# EAGLE library part 175446-6 (library 175446-6)
0.40/0.70 Hybrid Housing,cap,r/a,DR,42w Source: Datasheet <https://www.te.com/commerce/DocumentDelivery/DDEController?Action=srchrtrv&DocNm=175446&DocType=Customer Drawing&DocLang=Japanese>
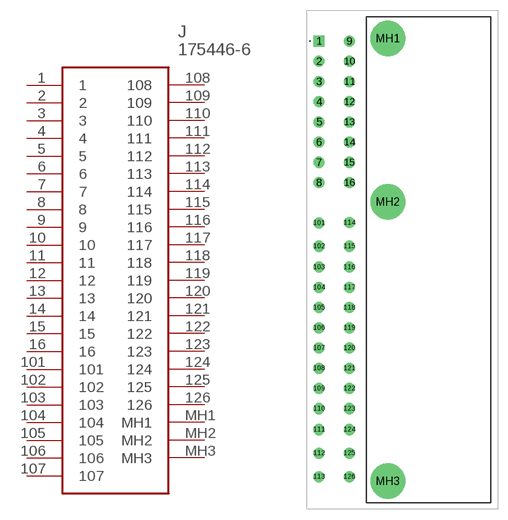
[diagram p0: symbol with the pads of 1754466; footprint 1754466]

Designator prefix J

## 175446-6 (Description: 0.40/0.70 Hybrid Housing,cap,r/a,DR,42w; Height: 22.2mm; Manufacturer_Name: TE Connectivity; Manufacturer_Part_Number: 175446-6; Mouser_Part_Number: 571-175446-6; Mouser_Price-Stock: https://www.mouser.co.uk/ProductDetail/TE-Connectivity-AMP/175446-6?qs=NCjoA4VtBPm%2FgYobaI%252BBdg%3D%3D)  [1754466]
1  1
2  2
3  3
4  4
5  5
6  6
7  7
8  8
9  9
10  10
11  11
12  12
13  13
14  14
15  15
16  16
101  101
102  102
103  103
104  104
105  105
106  106
107  107
108  108
109  109
110  110
111  111
112  112
113  113
114  114
115  115
116  116
117  117
118  118
119  119
120  120
121  121
122  122
123  123
124  124
125  125
126  126
MH1  MH1
MH2  MH2
MH3  MH3

## Footprint 1754466 (pad centres in mm)
175446-6-1
drill 1.1 pad 1.65 square: 1 0,0
drill 1.1 pad 1.65: 2 0,-3; 3 0,-6; 4 0,-9; 5 0,-12; 6 0,-15; 7 0,-18; 8 0,-21; 9 4.5,0; 10 4.5,-3; 11 4.5,-6; 12 4.5,-9; 13 4.5,-12; 14 4.5,-15; 15 4.5,-18; 16 4.5,-21; 101 0,-27; 102 0,-30.45; 103 0,-33.55; 104 0,-36.55; 105 0,-39.55; 106 0,-42.55; 107 0,-45.55; 108 0,-48.55; 109 0,-51.55; 110 0,-54.55; 111 0,-57.65; 112 0,-61.15; 113 0,-64.65; 114 4.5,-26.95; 115 4.5,-30.45; 116 4.5,-33.55; 117 4.5,-36.55; 118 4.5,-39.55; 119 4.5,-42.55; 120 4.5,-45.55; 121 4.5,-48.55; 122 4.5,-51.55; 123 4.5,-54.55; 124 4.5,-57.65; 125 4.5,-61.15; 126 4.5,-64.65
drill 3.5 pad 5.25: MH1 10.2,0.4; MH2 10.2,-23.85; MH3 10.2,-65.3